# Altium integrated library Motorola Microcontroller 8-Bit.IntLib: 909 symbols (part 27 of 31)
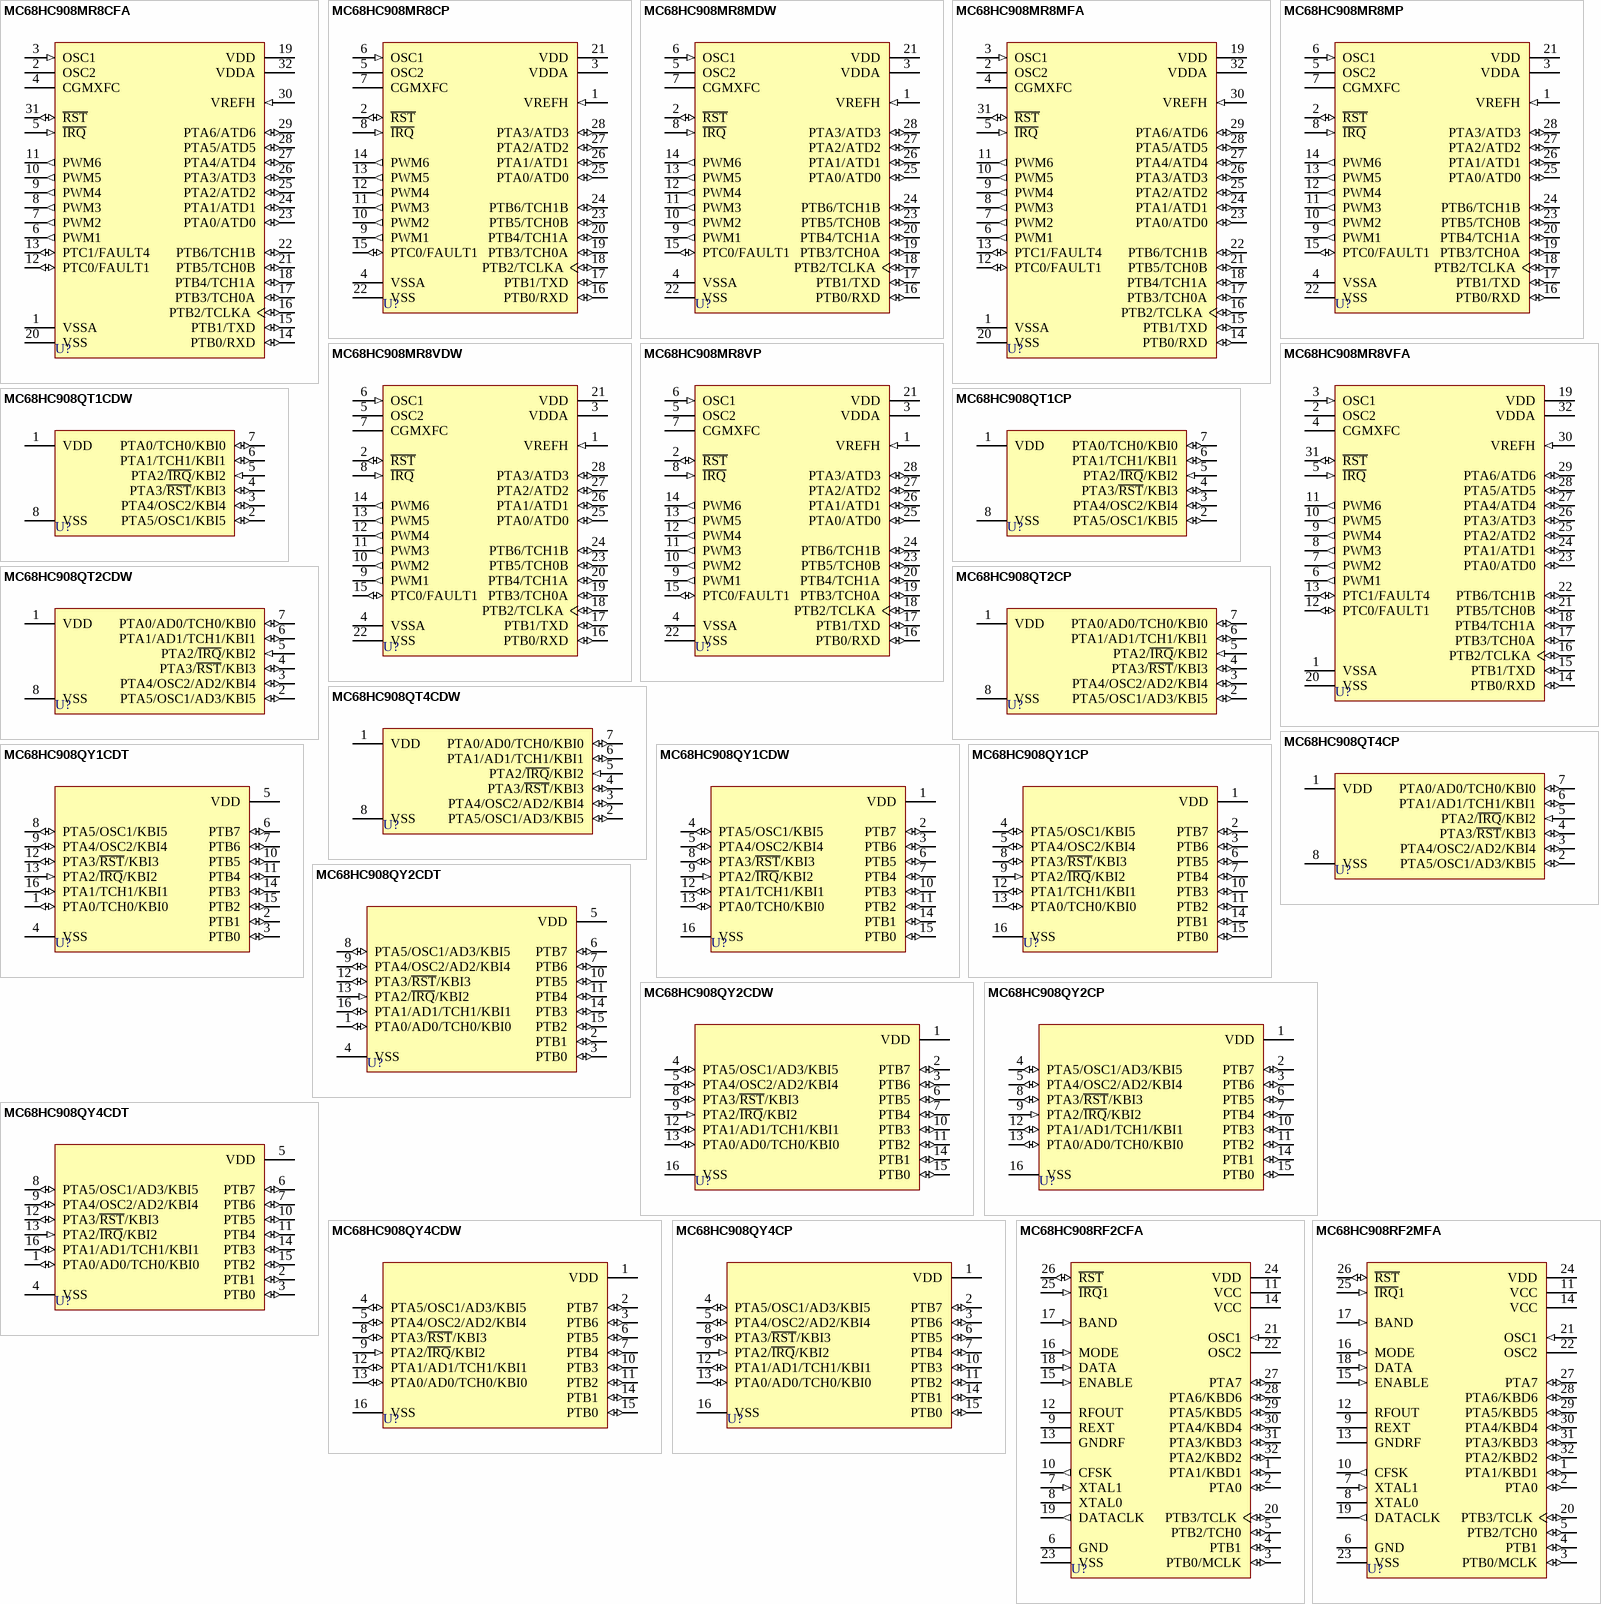
[diagram p139: symbols MC68HC908MR8CFA to MC68HC908RF2MFA]

## MC68HC908QY1CP
designator U?
8-Bit Microcontroller; Published: 17-Jan-2003; LatestRevisionDate: 06-Jun-2005; LatestRevisionNote: Stylized 3D Model Added.; DatasheetVersion: 20-Sep-2002; PackageVersion: rev1.0, Feb-2002; PackageReference: 648D; Publisher: Altium Limited; PackageDescription: DIP; 16 Leads; Row Spacing 7.62 mm; Pitch 2.54 mm; Code_JEDEC: MS-001-BB; ComponentLink1Description: Manufacturer Link; ComponentLink1URL: http://www.freescale.com/; ComponentLink2Description: Datasheet; ComponentLink2URL: http://www.freescale.com/files/microcontrollers/doc/data_sheet/MC68HC908QY4.pdf
footprint 648D (DIP; 16 Leads; Row Spacing 7.62 mm; Pitch 2.54 mm)
3D model 648-08 (DIP; 16 Leads; Row Spacing 7.62 mm; Pitch 2.54 mm)
pins: 1 VDD (power), 2 PTB7 (io), 3 PTB6 (io), 4 PTA5/OSC1/KBI5 (io), 5 PTA4/OSC2/KBI4 (io), 6 PTB5 (io), 7 PTB4 (io), 8 PTA3/~{RST}/KBI3 (io), 9 PTA2/~{IRQ}/KBI2 (in), 10 PTB3 (io), 11 PTB2 (io), 12 PTA1/TCH1/KBI1 (io), 13 PTA0/TCH0/KBI0 (io), 14 PTB1 (io), 15 PTB0 (io), 16 VSS (power)

## MC68HC908QY2CDT
designator U?
8-Bit Microcontroller; Published: 17-Jan-2003; LatestRevisionDate: 06-Jun-2005; LatestRevisionNote: Stylized 3D Model Added.; DatasheetVersion: 20-Sep-2002; PackageVersion: Mar-2000; PackageReference: 948F-01; Publisher: Altium Limited; PackageDescription: Shrink Small Outline; 16 Leads; Body Width 4.4 mm; Pitch 0.65 mm; ComponentLink1Description: Manufacturer Link; ComponentLink1URL: http://www.freescale.com/; ComponentLink2Description: Datasheet; ComponentLink2URL: http://www.freescale.com/files/microcontrollers/doc/data_sheet/MC68HC908QY4.pdf
footprint 948F-01 (Shrink Small Outline; 16 Leads; Body Width 4.4 mm; Pitch 0.65 mm)
3D model 948F-01 (Shrink Small Outline; 16 Leads; Body Width 4.4 mm; Pitch 0.65 mm)
pins: 1 PTA0/AD0/TCH0/KBI0 (io), 2 PTB1 (io), 3 PTB0 (io), 4 VSS (power), 5 VDD (power), 6 PTB7 (io), 7 PTB6 (io), 8 PTA5/OSC1/AD3/KBI5 (io), 9 PTA4/OSC2/AD2/KBI4 (io), 10 PTB5 (io), 11 PTB4 (io), 12 PTA3/~{RST}/KBI3 (io), 13 PTA2/~{IRQ}/KBI2 (in), 14 PTB3 (io), 15 PTB2 (io), 16 PTA1/AD1/TCH1/KBI1 (io)

## MC68HC908QY2CDW
designator U?
8-Bit Microcontroller; Published: 17-Jan-2003; LatestRevisionDate: 13-Apr-2006; LatestRevisionNote: IPC-7351 Footprint Added.; DatasheetVersion: 20-Sep-2002; PackageVersion: Sep-2002; PackageReference: 751G; Publisher: Altium Limited; PackageDescription: 16-Pin Small Outline Integrated Circuit 1.27 mm Pitch; ComponentLink1Description: Manufacturer Link; ComponentLink1URL: http://www.freescale.com/; ComponentLink2Description: Datasheet; ComponentLink2URL: http://www.freescale.com/files/microcontrollers/doc/data_sheet/MC68HC908QY4.pdf
footprint 751G_N (SOIC, 16-Leads, Body 10.3x7.5mm, Pitch 1.27mm, IPC Medium Density)
footprint 751G_L (SOIC, 16-Leads, Body 10.3x7.5mm, Pitch 1.27mm, IPC High Density)
footprint 751G_M (SOIC, 16-Leads, Body 10.3x7.5mm, Pitch 1.27mm, IPC Low Density)
3D model 751G (16-Pin Small Outline Integrated Circuit 1.27 mm Pitch)
pins: 1 VDD (power), 2 PTB7 (io), 3 PTB6 (io), 4 PTA5/OSC1/AD3/KBI5 (io), 5 PTA4/OSC2/AD2/KBI4 (io), 6 PTB5 (io), 7 PTB4 (io), 8 PTA3/~{RST}/KBI3 (io), 9 PTA2/~{IRQ}/KBI2 (in), 10 PTB3 (io), 11 PTB2 (io), 12 PTA1/AD1/TCH1/KBI1 (io), 13 PTA0/AD0/TCH0/KBI0 (io), 14 PTB1 (io), 15 PTB0 (io), 16 VSS (power)

## MC68HC908QY2CP
designator U?
8-Bit Microcontroller; Published: 17-Jan-2003; LatestRevisionDate: 06-Jun-2005; LatestRevisionNote: Stylized 3D Model Added.; DatasheetVersion: 20-Sep-2002; PackageVersion: rev1.0, Feb-2002; PackageReference: 648D; Publisher: Altium Limited; PackageDescription: DIP; 16 Leads; Row Spacing 7.62 mm; Pitch 2.54 mm; Code_JEDEC: MS-001-BB; ComponentLink1Description: Manufacturer Link; ComponentLink1URL: http://www.freescale.com/; ComponentLink2Description: Datasheet; ComponentLink2URL: http://www.freescale.com/files/microcontrollers/doc/data_sheet/MC68HC908QY4.pdf
footprint 648D (DIP; 16 Leads; Row Spacing 7.62 mm; Pitch 2.54 mm)
3D model 648-08 (DIP; 16 Leads; Row Spacing 7.62 mm; Pitch 2.54 mm)
pins: 1 VDD (power), 2 PTB7 (io), 3 PTB6 (io), 4 PTA5/OSC1/AD3/KBI5 (io), 5 PTA4/OSC2/AD2/KBI4 (io), 6 PTB5 (io), 7 PTB4 (io), 8 PTA3/~{RST}/KBI3 (io), 9 PTA2/~{IRQ}/KBI2 (in), 10 PTB3 (io), 11 PTB2 (io), 12 PTA1/AD1/TCH1/KBI1 (io), 13 PTA0/AD0/TCH0/KBI0 (io), 14 PTB1 (io), 15 PTB0 (io), 16 VSS (power)

## MC68HC908QY4CDT
designator U?
8-Bit Microcontroller; Published: 17-Jan-2003; LatestRevisionDate: 06-Jun-2005; LatestRevisionNote: Stylized 3D Model Added.; DatasheetVersion: 20-Sep-2002; PackageVersion: Mar-2000; PackageReference: 948F-01; Publisher: Altium Limited; PackageDescription: Shrink Small Outline; 16 Leads; Body Width 4.4 mm; Pitch 0.65 mm; ComponentLink1Description: Manufacturer Link; ComponentLink1URL: http://www.freescale.com/; ComponentLink2Description: Datasheet; ComponentLink2URL: http://www.freescale.com/files/microcontrollers/doc/data_sheet/MC68HC908QY4.pdf
footprint 948F-01 (Shrink Small Outline; 16 Leads; Body Width 4.4 mm; Pitch 0.65 mm)
3D model 948F-01 (Shrink Small Outline; 16 Leads; Body Width 4.4 mm; Pitch 0.65 mm)
pins: 1 PTA0/AD0/TCH0/KBI0 (io), 2 PTB1 (io), 3 PTB0 (io), 4 VSS (power), 5 VDD (power), 6 PTB7 (io), 7 PTB6 (io), 8 PTA5/OSC1/AD3/KBI5 (io), 9 PTA4/OSC2/AD2/KBI4 (io), 10 PTB5 (io), 11 PTB4 (io), 12 PTA3/~{RST}/KBI3 (io), 13 PTA2/~{IRQ}/KBI2 (in), 14 PTB3 (io), 15 PTB2 (io), 16 PTA1/AD1/TCH1/KBI1 (io)

## MC68HC908QY4CDW
designator U?
8-Bit Microcontroller; Published: 17-Jan-2003; LatestRevisionDate: 13-Apr-2006; LatestRevisionNote: IPC-7351 Footprint Added.; DatasheetVersion: 20-Sep-2002; PackageVersion: Sep-2002; PackageReference: 751G; Publisher: Altium Limited; PackageDescription: 16-Pin Small Outline Integrated Circuit 1.27 mm Pitch; ComponentLink1Description: Manufacturer Link; ComponentLink1URL: http://www.freescale.com/; ComponentLink2Description: Datasheet; ComponentLink2URL: http://www.freescale.com/files/microcontrollers/doc/data_sheet/MC68HC908QY4.pdf
footprint 751G_N (SOIC, 16-Leads, Body 10.3x7.5mm, Pitch 1.27mm, IPC Medium Density)
footprint 751G_L (SOIC, 16-Leads, Body 10.3x7.5mm, Pitch 1.27mm, IPC High Density)
footprint 751G_M (SOIC, 16-Leads, Body 10.3x7.5mm, Pitch 1.27mm, IPC Low Density)
3D model 751G (16-Pin Small Outline Integrated Circuit 1.27 mm Pitch)
pins: 1 VDD (power), 2 PTB7 (io), 3 PTB6 (io), 4 PTA5/OSC1/AD3/KBI5 (io), 5 PTA4/OSC2/AD2/KBI4 (io), 6 PTB5 (io), 7 PTB4 (io), 8 PTA3/~{RST}/KBI3 (io), 9 PTA2/~{IRQ}/KBI2 (in), 10 PTB3 (io), 11 PTB2 (io), 12 PTA1/AD1/TCH1/KBI1 (io), 13 PTA0/AD0/TCH0/KBI0 (io), 14 PTB1 (io), 15 PTB0 (io), 16 VSS (power)

## MC68HC908QY4CP
designator U?
8-Bit Microcontroller; Published: 17-Jan-2003; LatestRevisionDate: 06-Jun-2005; LatestRevisionNote: Stylized 3D Model Added.; DatasheetVersion: 20-Sep-2002; PackageVersion: rev1.0, Feb-2002; PackageReference: 648D; Publisher: Altium Limited; PackageDescription: DIP; 16 Leads; Row Spacing 7.62 mm; Pitch 2.54 mm; Code_JEDEC: MS-001-BB; ComponentLink1Description: Manufacturer Link; ComponentLink1URL: http://www.freescale.com/; ComponentLink2Description: Datasheet; ComponentLink2URL: http://www.freescale.com/files/microcontrollers/doc/data_sheet/MC68HC908QY4.pdf
footprint 648D (DIP; 16 Leads; Row Spacing 7.62 mm; Pitch 2.54 mm)
3D model 648-08 (DIP; 16 Leads; Row Spacing 7.62 mm; Pitch 2.54 mm)
pins: 1 VDD (power), 2 PTB7 (io), 3 PTB6 (io), 4 PTA5/OSC1/AD3/KBI5 (io), 5 PTA4/OSC2/AD2/KBI4 (io), 6 PTB5 (io), 7 PTB4 (io), 8 PTA3/~{RST}/KBI3 (io), 9 PTA2/~{IRQ}/KBI2 (in), 10 PTB3 (io), 11 PTB2 (io), 12 PTA1/AD1/TCH1/KBI1 (io), 13 PTA0/AD0/TCH0/KBI0 (io), 14 PTB1 (io), 15 PTB0 (io), 16 VSS (power)

## MC68HC908RF2CFA
designator U?
8-Bit Microcontroller; Published: 17-Jan-2003; LatestRevisionDate: 13-Apr-2006; LatestRevisionNote: IPC-7351 Footprint Added.; DatasheetVersion: Rev 1, 2001; PackageVersion: Aug-2001; PackageReference: 873A-02; Publisher: Altium Limited; PackageDescription: 32-Pin Thin Quad Flat Pack 0.8 mm Pitch; ComponentLink1Description: Manufacturer Link; ComponentLink1URL: http://www.freescale.com/; ComponentLink2Description: Datasheet; ComponentLink2URL: http://www.freescale.com/files/microcontrollers/doc/data_sheet/MC68HC908RF2.pdf
footprint 873A-02_N (Thin QFP, 32-Leads, Body 7x7mm, Pitch 0.8mm, IPC Medium Density)
footprint 873A-02_L (Thin QFP, 32-Leads, Body 7x7mm, Pitch 0.8mm, IPC High Density)
footprint 873A-02_M (Thin QFP, 32-Leads, Body 7x7mm, Pitch 0.8mm, IPC Low Density)
3D model MC68HC908-873A-02 (32-Pin Thin Quad Flat Pack 0.8 mm Pitch)
pins: 1 PTA1/KBD1 (io), 2 PTA0 (io), 3 PTB0/MCLK (io), 4 PTB1 (io), 5 PTB2/TCH0 (io), 6 GND (power), 7 XTAL1 (in), 8 XTAL0, 9 REXT, 10 CFSK (out), 11 VCC (power), 12 RFOUT (oe), 13 GNDRF (power), 14 VCC (power), 15 ENABLE (in), 16 MODE (in), 17 BAND (in), 18 DATA (in), 19 DATACLK (out), 20 PTB3/TCLK (io), 21 OSC1 (in), 22 OSC2, 23 VSS (power), 24 VDD (power), 25 ~{IRQ}1 (in), 26 ~{RST} (io), 27 PTA7 (io), 28 PTA6/KBD6 (io), 29 PTA5/KBD5 (io), 30 PTA4/KBD4 (io), 31 PTA3/KBD3 (io), 32 PTA2/KBD2 (io)

## MC68HC908RF2MFA
designator U?
8-Bit Microcontroller; Published: 17-Jan-2003; LatestRevisionDate: 13-Apr-2006; LatestRevisionNote: IPC-7351 Footprint Added.; DatasheetVersion: Rev 1, 2001; PackageVersion: Aug-2001; PackageReference: 873A-02; Publisher: Altium Limited; PackageDescription: 32-Pin Thin Quad Flat Pack 0.8 mm Pitch; ComponentLink1Description: Manufacturer Link; ComponentLink1URL: http://www.freescale.com/; ComponentLink2Description: Datasheet; ComponentLink2URL: http://www.freescale.com/files/microcontrollers/doc/data_sheet/MC68HC908RF2.pdf
footprint 873A-02_N (Thin QFP, 32-Leads, Body 7x7mm, Pitch 0.8mm, IPC Medium Density)
footprint 873A-02_L (Thin QFP, 32-Leads, Body 7x7mm, Pitch 0.8mm, IPC High Density)
footprint 873A-02_M (Thin QFP, 32-Leads, Body 7x7mm, Pitch 0.8mm, IPC Low Density)
3D model MC68HC908-873A-02 (32-Pin Thin Quad Flat Pack 0.8 mm Pitch)
pins: 1 PTA1/KBD1 (io), 2 PTA0 (io), 3 PTB0/MCLK (io), 4 PTB1 (io), 5 PTB2/TCH0 (io), 6 GND (power), 7 XTAL1 (in), 8 XTAL0, 9 REXT, 10 CFSK (out), 11 VCC (power), 12 RFOUT (oe), 13 GNDRF (power), 14 VCC (power), 15 ENABLE (in), 16 MODE (in), 17 BAND (in), 18 DATA (in), 19 DATACLK (out), 20 PTB3/TCLK (io), 21 OSC1 (in), 22 OSC2, 23 VSS (power), 24 VDD (power), 25 ~{IRQ}1 (in), 26 ~{RST} (io), 27 PTA7 (io), 28 PTA6/KBD6 (io), 29 PTA5/KBD5 (io), 30 PTA4/KBD4 (io), 31 PTA3/KBD3 (io), 32 PTA2/KBD2 (io)

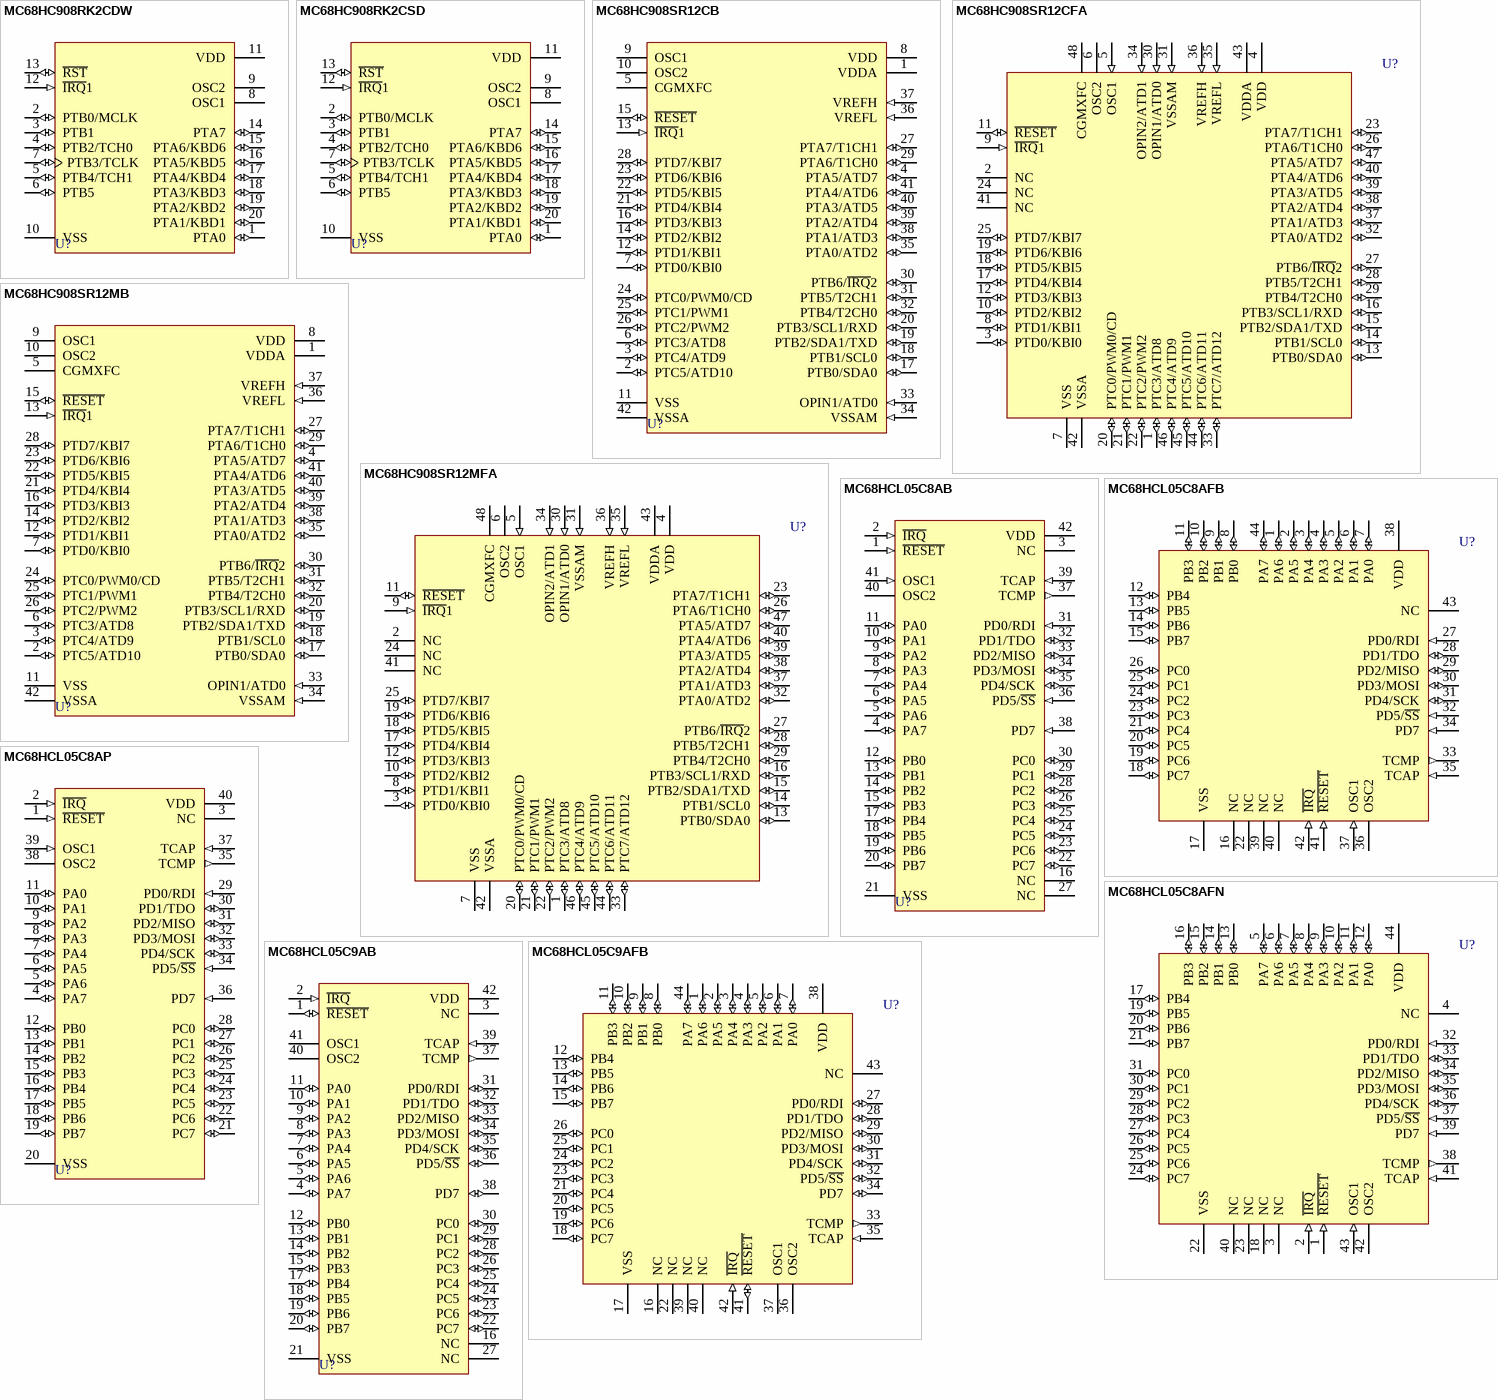
[diagram p98: symbols MC68HC908RK2CDW to MC68HCL05C9AFB]

## MC68HC908RK2CDW
designator U?
8-Bit Microcontroller; Published: 17-Jan-2003; LatestRevisionDate: 13-Apr-2006; LatestRevisionNote: IPC-7351 Footprint Added.; DatasheetVersion: Rev 4, 2001; PackageVersion: rev4.0, 2001; PackageReference: 751D-05; Publisher: Altium Limited; PackageDescription: 20-Pin Plastic Small Outline Integrated Circuit 1.27 mm Pitch; ComponentLink1Description: Manufacturer Link; ComponentLink1URL: http://www.freescale.com/
footprint 751D-05_N (SOIC, 20-Leads, Body 12.8x7.5mm, Pitch 1.27mm, IPC Medium Density)
footprint 751D-05_L (SOIC, 20-Leads, Body 12.8x7.5mm, Pitch 1.27mm, IPC High Density)
footprint 751D-05_M (SOIC, 20-Leads, Body 12.8x7.5mm, Pitch 1.27mm, IPC Low Density)
3D model 751D-05 (20-Pin Plastic Small Outline Integrated Circuit 1.27 mm Pitch)
pins: 1 PTA0 (io), 2 PTB0/MCLK (io), 3 PTB1 (io), 4 PTB2/TCH0 (io), 5 PTB4/TCH1 (io), 6 PTB5 (io), 7 PTB3/TCLK (io), 8 OSC1, 9 OSC2, 10 VSS (power), 11 VDD (power), 12 ~{IRQ}1 (in), 13 ~{RST} (io), 14 PTA7 (io), 15 PTA6/KBD6 (io), 16 PTA5/KBD5 (io), 17 PTA4/KBD4 (io), 18 PTA3/KBD3 (io), 19 PTA2/KBD2 (io), 20 PTA1/KBD1 (io)

## MC68HC908RK2CSD
designator U?
8-Bit Microcontroller; Published: 17-Jan-2003; LatestRevisionDate: 06-Jun-2005; LatestRevisionNote: Stylized 3D Model Added.; DatasheetVersion: Rev 4, 2001; PackageVersion: rev4.0, 2001; PackageReference: 940C-03; Publisher: Altium Limited; PackageDescription: SSOP; 20 Leads; Body Width 5.3 mm; Pitch 0.65 mm; ComponentLink1Description: Manufacturer Link; ComponentLink1URL: http://www.freescale.com/
footprint 940C-03 (SSOP; 20 Leads; Body Width 5.3 mm; Pitch 0.65 mm)
3D model 940C-03 (SSOP; 20 Leads; Body Width 5.3 mm; Pitch 0.65 mm)
pins: 1 PTA0 (io), 2 PTB0/MCLK (io), 3 PTB1 (io), 4 PTB2/TCH0 (io), 5 PTB4/TCH1 (io), 6 PTB5 (io), 7 PTB3/TCLK (io), 8 OSC1, 9 OSC2, 10 VSS (power), 11 VDD (power), 12 ~{IRQ}1 (in), 13 ~{RST} (io), 14 PTA7 (io), 15 PTA6/KBD6 (io), 16 PTA5/KBD5 (io), 17 PTA4/KBD4 (io), 18 PTA3/KBD3 (io), 19 PTA2/KBD2 (io), 20 PTA1/KBD1 (io)

## MC68HC908SR12CB
designator U?
8-Bit Microcontroller; Published: 17-Jan-2003; LatestRevisionDate: 06-Jun-2005; LatestRevisionNote: Stylized 3D Model Added.; DatasheetVersion: Rev 4, 2/2002; PackageVersion: rev5, Apr-2002; PackageReference: 858-01; Publisher: Altium Limited; PackageDescription: DIP, Plastic; 42 Leads; Row Spacing 15.24 mm; Pitch 1.778 mm; ComponentLink1Description: Manufacturer Link; ComponentLink1URL: http://www.freescale.com/
footprint 858-01 (DIP, Plastic; 42 Leads; Row Spacing 15.24 mm; Pitch 1.778 mm)
3D model 858-01 (DIP, Plastic; 42 Leads; Row Spacing 15.24 mm; Pitch 1.778 mm)
pins: 1 VDDA (power), 2 PTC5/ATD10 (io), 3 PTC4/ATD9 (io), 4 PTA5/ATD7 (io), 5 CGMXFC, 6 PTC3/ATD8 (io), 7 PTD0/KBI0 (io), 8 VDD (power), 9 OSC1, 10 OSC2, 11 VSS (power), 12 PTD1/KBI1 (io), 13 ~{IRQ}1 (in), 14 PTD2/KBI2 (io), 15 ~{RESET} (io), 16 PTD3/KBI3 (io), 17 PTB0/SDA0 (io), 18 PTB1/SCL0 (io), 19 PTB2/SDA1/TXD (io), 20 PTB3/SCL1/RXD (io), 21 PTD4/KBI4 (io), 22 PTD5/KBI5 (io), 23 PTD6/KBI6 (io), 24 PTC0/PWM0/CD (io), 25 PTC1/PWM1 (io), 26 PTC2/PWM2 (io), 27 PTA7/T1CH1 (io), 28 PTD7/KBI7 (io), 29 PTA6/T1CH0 (io), 30 PTB6/~{IRQ}2 (io), 31 PTB5/T2CH1 (io), 32 PTB4/T2CH0 (io), 33 OPIN1/ATD0 (in), 34 VSSAM (in), 35 PTA0/ATD2 (io), 36 VREFL (in), 37 VREFH (in), 38 PTA1/ATD3 (io), 39 PTA2/ATD4 (io), 40 PTA3/ATD5 (io), 41 PTA4/ATD6 (io), 42 VSSA (power)

## MC68HC908SR12CFA
designator U?
8-Bit Microcontroller; Published: 17-Jan-2003; LatestRevisionDate: 13-Apr-2006; LatestRevisionNote: IPC-7351 Footprint Added.; DatasheetVersion: Rev 4, 2/2002; PackageVersion: rev4, Feb-2002; PackageReference: 932-02; Publisher: Altium Limited; PackageDescription: 48-Pin Thin Quad Flat Pack 0.5 mm Pitch; ComponentLink1Description: Manufacturer Link; ComponentLink1URL: http://www.freescale.com/
footprint 932-02_N (Thin QFP, 48-Leads, Body 7x7mm, Pitch 0.5mm, IPC Medium Density)
footprint 932-02_L (Thin QFP, 48-Leads, Body 7x7mm, Pitch 0.5mm, IPC High Density)
footprint 932-02_M (Thin QFP, 48-Leads, Body 7x7mm, Pitch 0.5mm, IPC Low Density)
3D model MC68HC908-932-02 (48-Pin Thin Quad Flat Pack 0.5 mm Pitch)
pins: 1 PTC3/ATD8 (io), 2 NC, 3 PTD0/KBI0 (io), 4 VDD (power), 5 OSC1 (in), 6 OSC2, 7 VSS (power), 8 PTD1/KBI1 (io), 9 ~{IRQ}1 (in), 10 PTD2/KBI2 (io), 11 ~{RESET} (io), 12 PTD3/KBI3 (io), 13 PTB0/SDA0 (io), 14 PTB1/SCL0 (io), 15 PTB2/SDA1/TXD (io), 16 PTB3/SCL1/RXD (io), 17 PTD4/KBI4 (io), 18 PTD5/KBI5 (io), 19 PTD6/KBI6 (io), 20 PTC0/PWM0/CD (io), 21 PTC1/PWM1 (io), 22 PTC2/PWM2 (io), 23 PTA7/T1CH1 (io), 24 NC, 25 PTD7/KBI7 (io), 26 PTA6/T1CH0 (io), 27 PTB6/~{IRQ}2 (io), 28 PTB5/T2CH1 (io), 29 PTB4/T2CH0 (io), 30 OPIN1/ATD0 (in), 31 VSSAM (in), 32 PTA0/ATD2 (io), 33 PTC7/ATD12 (io), 34 OPIN2/ATD1 (in), 35 VREFL (in), 36 VREFH (in), 37 PTA1/ATD3 (io), 38 PTA2/ATD4 (io), 39 PTA3/ATD5 (io), 40 PTA4/ATD6 (io), 41 NC, 42 VSSA (power), 43 VDDA (power), 44 PTC6/ATD11 (io), 45 PTC5/ATD10 (io), 46 PTC4/ATD9 (io), 47 PTA5/ATD7 (io), 48 CGMXFC

## MC68HC908SR12MB
designator U?
8-Bit Microcontroller; Published: 17-Jan-2003; LatestRevisionDate: 06-Jun-2005; LatestRevisionNote: Stylized 3D Model Added.; DatasheetVersion: Rev 4, 2/2002; PackageVersion: rev5, Apr-2002; PackageReference: 858-01; Publisher: Altium Limited; PackageDescription: DIP, Plastic; 42 Leads; Row Spacing 15.24 mm; Pitch 1.778 mm; ComponentLink1Description: Manufacturer Link; ComponentLink1URL: http://www.freescale.com/
footprint 858-01 (DIP, Plastic; 42 Leads; Row Spacing 15.24 mm; Pitch 1.778 mm)
3D model 858-01 (DIP, Plastic; 42 Leads; Row Spacing 15.24 mm; Pitch 1.778 mm)
pins: 1 VDDA (power), 2 PTC5/ATD10 (io), 3 PTC4/ATD9 (io), 4 PTA5/ATD7 (io), 5 CGMXFC, 6 PTC3/ATD8 (io), 7 PTD0/KBI0 (io), 8 VDD (power), 9 OSC1, 10 OSC2, 11 VSS (power), 12 PTD1/KBI1 (io), 13 ~{IRQ}1 (in), 14 PTD2/KBI2 (io), 15 ~{RESET} (io), 16 PTD3/KBI3 (io), 17 PTB0/SDA0 (io), 18 PTB1/SCL0 (io), 19 PTB2/SDA1/TXD (io), 20 PTB3/SCL1/RXD (io), 21 PTD4/KBI4 (io), 22 PTD5/KBI5 (io), 23 PTD6/KBI6 (io), 24 PTC0/PWM0/CD (io), 25 PTC1/PWM1 (io), 26 PTC2/PWM2 (io), 27 PTA7/T1CH1 (io), 28 PTD7/KBI7 (io), 29 PTA6/T1CH0 (io), 30 PTB6/~{IRQ}2 (io), 31 PTB5/T2CH1 (io), 32 PTB4/T2CH0 (io), 33 OPIN1/ATD0 (in), 34 VSSAM (in), 35 PTA0/ATD2 (io), 36 VREFL (in), 37 VREFH (in), 38 PTA1/ATD3 (io), 39 PTA2/ATD4 (io), 40 PTA3/ATD5 (io), 41 PTA4/ATD6 (io), 42 VSSA (power)

## MC68HC908SR12MFA
designator U?
8-Bit Microcontroller; Published: 17-Jan-2003; LatestRevisionDate: 13-Apr-2006; LatestRevisionNote: IPC-7351 Footprint Added.; DatasheetVersion: Rev 4, 2/2002; PackageVersion: rev4, Feb-2002; PackageReference: 932-02; Publisher: Altium Limited; PackageDescription: 48-Pin Thin Quad Flat Pack 0.5 mm Pitch; ComponentLink1Description: Manufacturer Link; ComponentLink1URL: http://www.freescale.com/
footprint 932-02_N (Thin QFP, 48-Leads, Body 7x7mm, Pitch 0.5mm, IPC Medium Density)
footprint 932-02_L (Thin QFP, 48-Leads, Body 7x7mm, Pitch 0.5mm, IPC High Density)
footprint 932-02_M (Thin QFP, 48-Leads, Body 7x7mm, Pitch 0.5mm, IPC Low Density)
3D model MC68HC908-932-02 (48-Pin Thin Quad Flat Pack 0.5 mm Pitch)
pins: 1 PTC3/ATD8 (io), 2 NC, 3 PTD0/KBI0 (io), 4 VDD (power), 5 OSC1 (in), 6 OSC2, 7 VSS (power), 8 PTD1/KBI1 (io), 9 ~{IRQ}1 (in), 10 PTD2/KBI2 (io), 11 ~{RESET} (io), 12 PTD3/KBI3 (io), 13 PTB0/SDA0 (io), 14 PTB1/SCL0 (io), 15 PTB2/SDA1/TXD (io), 16 PTB3/SCL1/RXD (io), 17 PTD4/KBI4 (io), 18 PTD5/KBI5 (io), 19 PTD6/KBI6 (io), 20 PTC0/PWM0/CD (io), 21 PTC1/PWM1 (io), 22 PTC2/PWM2 (io), 23 PTA7/T1CH1 (io), 24 NC, 25 PTD7/KBI7 (io), 26 PTA6/T1CH0 (io), 27 PTB6/~{IRQ}2 (io), 28 PTB5/T2CH1 (io), 29 PTB4/T2CH0 (io), 30 OPIN1/ATD0 (in), 31 VSSAM (in), 32 PTA0/ATD2 (io), 33 PTC7/ATD12 (io), 34 OPIN2/ATD1 (in), 35 VREFL (in), 36 VREFH (in), 37 PTA1/ATD3 (io), 38 PTA2/ATD4 (io), 39 PTA3/ATD5 (io), 40 PTA4/ATD6 (io), 41 NC, 42 VSSA (power), 43 VDDA (power), 44 PTC6/ATD11 (io), 45 PTC5/ATD10 (io), 46 PTC4/ATD9 (io), 47 PTA5/ATD7 (io), 48 CGMXFC

## MC68HCL05C8AB
designator U?
8-Bit Microcontroller; Note: If MC68HC705C8A OTPs are to be used in the same applicaion, pin 3 should be tied to VDD.; Published: 17-Jan-2003; LatestRevisionDate: 06-Jun-2005; LatestRevisionNote: Stylized 3D Model Added.; DatasheetVersion: Rev 5, 4/2002; PackageVersion: rev5, Apr-2002; PackageReference: 858-01; Publisher: Altium Limited; PackageDescription: DIP, Plastic; 42 Leads; Row Spacing 15.24 mm; Pitch 1.778 mm; ComponentLink1Description: Manufacturer Link; ComponentLink1URL: http://www.freescale.com/; ComponentLink2Description: Datasheet; ComponentLink2URL: http://www.freescale.com/files/microcontrollers/doc/data_sheet/MC68HC05C8A.pdf
footprint 858-01 (DIP, Plastic; 42 Leads; Row Spacing 15.24 mm; Pitch 1.778 mm)
3D model 858-01 (DIP, Plastic; 42 Leads; Row Spacing 15.24 mm; Pitch 1.778 mm)
pins: 1 ~{RESET} (in), 2 ~{IRQ} (in), 3 NC, 4 PA7 (io), 5 PA6 (io), 6 PA5 (io), 7 PA4 (io), 8 PA3 (io), 9 PA2 (io), 10 PA1 (io), 11 PA0 (io), 12 PB0 (io), 13 PB1 (io), 14 PB2 (io), 15 PB3 (io), 16 NC, 17 PB4 (io), 18 PB5 (io), 19 PB6 (io), 20 PB7 (io), 21 VSS (power), 22 PC7 (io), 23 PC6 (io), 24 PC5 (io), 25 PC4 (io), 26 PC3 (io), 27 NC, 28 PC2 (io), 29 PC1 (io), 30 PC0 (io), 31 PD0/RDI (in), 32 PD1/TDO (io), 33 PD2/MISO (io), 34 PD3/MOSI (io), 35 PD4/SCK (io), 36 PD5/~{SS} (in), 37 TCMP (out), 38 PD7 (in), 39 TCAP (in), 40 OSC2, 41 OSC1 (in), 42 VDD (power)

## MC68HCL05C8AFB
designator U?
8-Bit Microcontroller; Note: If MC68HC705C8A OTPs are to be used in the same applicaion, pin 43 should be tied to VDD.; Published: 17-Jan-2003; LatestRevisionDate: 13-Apr-2006; LatestRevisionNote: IPC-7351 Footprint Added.; DatasheetVersion: Rev 5, 4/2002; PackageVersion: rev5, Apr-2002; PackageReference: 824A-01; Publisher: Altium Limited; PackageDescription: 44-Pin Quad Flat Pack 0.8 mm Pitch; Code_JEDEC: MS-022-AB; Code_IPC: QFP80P1320X1320-44; ComponentLink1Description: Manufacturer Link; ComponentLink1URL: http://www.freescale.com/; ComponentLink2Description: Datasheet; ComponentLink2URL: http://www.freescale.com/files/microcontrollers/doc/data_sheet/MC68HC05C8A.pdf
footprint 824A-01_N (QFP, 44-Leads, Body 10x10mm, Pitch 0.8mm, IPC Medium Density)
footprint 824A-01_L (QFP, 44-Leads, Body 10x10mm, Pitch 0.8mm, IPC High Density)
footprint 824A-01_M (QFP, 44-Leads, Body 10x10mm, Pitch 0.8mm, IPC Low Density)
3D model MC68HCL05-824A-01 (44-Pin Quad Flat Pack 0.8 mm Pitch)
pins: 1 PA6 (io), 2 PA5 (io), 3 PA4 (io), 4 PA3 (io), 5 PA2 (io), 6 PA1 (io), 7 PA0 (io), 8 PB0 (io), 9 PB1 (io), 10 PB2 (io), 11 PB3 (io), 12 PB4 (io), 13 PB5 (io), 14 PB6 (io), 15 PB7 (io), 16 NC, 17 VSS (power), 18 PC7 (io), 19 PC6 (io), 20 PC5 (io), 21 PC4 (io), 22 NC, 23 PC3 (io), 24 PC2 (io), 25 PC1 (io), 26 PC0 (io), 27 PD0/RDI (in), 28 PD1/TDO (io), 29 PD2/MISO (io), 30 PD3/MOSI (io), 31 PD4/SCK (io), 32 PD5/~{SS} (in), 33 TCMP (out), 34 PD7 (in), 35 TCAP (in), 36 OSC2, 37 OSC1 (in), 38 VDD (power), 39 NC, 40 NC, 41 ~{RESET} (in), 42 ~{IRQ} (in), 43 NC, 44 PA7 (io)

## MC68HCL05C8AFN
designator U?
8-Bit Microcontroller; Note: If MC68HC705C8A OTPs are to be used in the same applicaion, pin 4 should be tied to VDD.; Published: 17-Jan-2003; LatestRevisionDate: 13-Apr-2006; LatestRevisionNote: IPC-7351 Footprint Added.; DatasheetVersion: Rev 5, 4/2002; PackageVersion: rev3, Feb-2002; PackageReference: 777-02; Publisher: Altium Limited; PackageDescription: 44-Pin Plastic Leaded Chip Carrier 1.27 mm Pitch; ComponentLink1Description: Manufacturer Link; ComponentLink1URL: http://www.freescale.com/; ComponentLink2Description: Datasheet; ComponentLink2URL: http://www.freescale.com/files/microcontrollers/doc/data_sheet/MC68HC05C8A.pdf
footprint 777-02_N (Leaded Chip Carrier, 44-Leads, Body 16.6x16.6mm, Pitch 1.27mm, IPC Medium Density)
footprint 777-02_L (Leaded Chip Carrier, 44-Leads, Body 16.6x16.6mm, Pitch 1.27mm, IPC High Density)
footprint 777-02_M (Leaded Chip Carrier, 44-Leads, Body 16.6x16.6mm, Pitch 1.27mm, IPC Low Density)
3D model MC68HCL05-777-02 (44-Pin Plastic Leaded Chip Carrier 1.27 mm Pitch)
pins: 1 ~{RESET} (in), 2 ~{IRQ} (in), 3 NC, 4 NC, 5 PA7 (io), 6 PA6 (io), 7 PA5 (io), 8 PA4 (io), 9 PA3 (io), 10 PA2 (io), 11 PA1 (io), 12 PA0 (io), 13 PB0 (io), 14 PB1 (io), 15 PB2 (io), 16 PB3 (io), 17 PB4 (io), 18 NC, 19 PB5 (io), 20 PB6 (io), 21 PB7 (io), 22 VSS (power), 23 NC, 24 PC7 (io), 25 PC6 (io), 26 PC5 (io), 27 PC4 (io), 28 PC3 (io), 29 PC2 (io), 30 PC1 (io), 31 PC0 (io), 32 PD0/RDI (in), 33 PD1/TDO (io), 34 PD2/MISO (io), 35 PD3/MOSI (io), 36 PD4/SCK (io), 37 PD5/~{SS} (in), 38 TCMP (out), 39 PD7 (in), 40 NC, 41 TCAP (in), 42 OSC2, 43 OSC1 (in), 44 VDD (power)

## MC68HCL05C8AP
designator U?
8-Bit Microcontroller; Note: If MC68HC705C8A OTPs are to be used in the same applicaion, pin 3 should be tied to VDD.; Published: 17-Jan-2003; LatestRevisionDate: 06-Jun-2005; LatestRevisionNote: Stylized 3D Model Added.; DatasheetVersion: Rev 5, 4/2002; PackageReference: 711-03; Publisher: Altium Limited; PackageDescription: DIP; 40 Leads; Row Spacing 15.24 mm; Pitch 2.54 mm; ComponentLink1Description: Manufacturer Link; ComponentLink1URL: http://www.freescale.com/; ComponentLink2Description: Datasheet; ComponentLink2URL: http://www.freescale.com/files/microcontrollers/doc/data_sheet/MC68HC05C8A.pdf
footprint 711-03 (DIP; 40 Leads; Row Spacing 15.24 mm; Pitch 2.54 mm)
3D model 711-03 (DIP; 40 Leads; Row Spacing 15.24 mm; Pitch 2.54 mm)
pins: 1 ~{RESET} (in), 2 ~{IRQ} (in), 3 NC, 4 PA7 (io), 5 PA6 (io), 6 PA5 (io), 7 PA4 (io), 8 PA3 (io), 9 PA2 (io), 10 PA1 (io), 11 PA0 (io), 12 PB0 (io), 13 PB1 (io), 14 PB2 (io), 15 PB3 (io), 16 PB4 (io), 17 PB5 (io), 18 PB6 (io), 19 PB7 (io), 20 VSS (power), 21 PC7 (io), 22 PC6 (io), 23 PC5 (io), 24 PC4 (io), 25 PC3 (io), 26 PC2 (io), 27 PC1 (io), 28 PC0 (io), 29 PD0/RDI (in), 30 PD1/TDO (io), 31 PD2/MISO (io), 32 PD3/MOSI (io), 33 PD4/SCK (io), 34 PD5/~{SS} (in), 35 TCMP (out), 36 PD7 (in), 37 TCAP (in), 38 OSC2, 39 OSC1 (in), 40 VDD (power)

## MC68HCL05C9AB
designator U?
8-Bit Microcontroller; Note: If MC68HC705C9A devices are to be used in the same socket, pin 3 should be tied to VDD.; Published: 17-Jan-2003; LatestRevisionDate: 06-Jun-2005; LatestRevisionNote: Stylized 3D Model Added.; DatasheetVersion: Rev 5, 2000; PackageVersion: rev5, Apr-2002; PackageReference: 858-01; Publisher: Altium Limited; PackageDescription: DIP, Plastic; 42 Leads; Row Spacing 15.24 mm; Pitch 1.778 mm; ComponentLink1Description: Manufacturer Link; ComponentLink1URL: http://www.freescale.com/; ComponentLink2Description: Datasheet; ComponentLink2URL: http://www.freescale.com/files/microcontrollers/doc/data_sheet/MC68HC05C9A.pdf
footprint 858-01 (DIP, Plastic; 42 Leads; Row Spacing 15.24 mm; Pitch 1.778 mm)
3D model 858-01 (DIP, Plastic; 42 Leads; Row Spacing 15.24 mm; Pitch 1.778 mm)
pins: 1 ~{RESET} (io), 2 ~{IRQ} (in), 3 NC, 4 PA7 (io), 5 PA6 (io), 6 PA5 (io), 7 PA4 (io), 8 PA3 (io), 9 PA2 (io), 10 PA1 (io), 11 PA0 (io), 12 PB0 (io), 13 PB1 (io), 14 PB2 (io), 15 PB3 (io), 16 NC, 17 PB4 (io), 18 PB5 (io), 19 PB6 (io), 20 PB7 (io), 21 VSS (power), 22 PC7 (io), 23 PC6 (io), 24 PC5 (io), 25 PC4 (io), 26 PC3 (io), 27 NC, 28 PC2 (io), 29 PC1 (io), 30 PC0 (io), 31 PD0/RDI (io), 32 PD1/TDO (io), 33 PD2/MISO (io), 34 PD3/MOSI (io), 35 PD4/SCK (io), 36 PD5/~{SS} (io), 37 TCMP (out), 38 PD7 (io), 39 TCAP (in), 40 OSC2, 41 OSC1, 42 VDD (power)

## MC68HCL05C9AFB
designator U?
8-Bit Microcontroller; Note: If MC68HC705C9A devices are to be used in the same socket, pin 43 should be tied to VDD.; Published: 17-Jan-2003; LatestRevisionDate: 13-Apr-2006; LatestRevisionNote: IPC-7351 Footprint Added.; DatasheetVersion: Rev 5, 2000; PackageVersion: rev5, Apr-2002; PackageReference: 824A-01; Publisher: Altium Limited; PackageDescription: 44-Pin Quad Flat Pack 0.8 mm Pitch; Code_JEDEC: MS-022-AB; Code_IPC: QFP80P1320X1320-44; ComponentLink1Description: Manufacturer Link; ComponentLink1URL: http://www.freescale.com/; ComponentLink2Description: Datasheet; ComponentLink2URL: http://www.freescale.com/files/microcontrollers/doc/data_sheet/MC68HC05C9A.pdf
footprint 824A-01_N (QFP, 44-Leads, Body 10x10mm, Pitch 0.8mm, IPC Medium Density)
footprint 824A-01_L (QFP, 44-Leads, Body 10x10mm, Pitch 0.8mm, IPC High Density)
footprint 824A-01_M (QFP, 44-Leads, Body 10x10mm, Pitch 0.8mm, IPC Low Density)
3D model MC68HCL05-824A-01 (44-Pin Quad Flat Pack 0.8 mm Pitch)
pins: 1 PA6 (io), 2 PA5 (io), 3 PA4 (io), 4 PA3 (io), 5 PA2 (io), 6 PA1 (io), 7 PA0 (io), 8 PB0 (io), 9 PB1 (io), 10 PB2 (io), 11 PB3 (io), 12 PB4 (io), 13 PB5 (io), 14 PB6 (io), 15 PB7 (io), 16 NC, 17 VSS (power), 18 PC7 (io), 19 PC6 (io), 20 PC5 (io), 21 PC4 (io), 22 NC, 23 PC3 (io), 24 PC2 (io), 25 PC1 (io), 26 PC0 (io), 27 PD0/RDI (io), 28 PD1/TDO (io), 29 PD2/MISO (io), 30 PD3/MOSI (io), 31 PD4/SCK (io), 32 PD5/~{SS} (io), 33 TCMP (out), 34 PD7 (io), 35 TCAP (in), 36 OSC2, 37 OSC1, 38 VDD (power), 39 NC, 40 NC, 41 ~{RESET} (io), 42 ~{IRQ} (in), 43 NC, 44 PA7 (io)

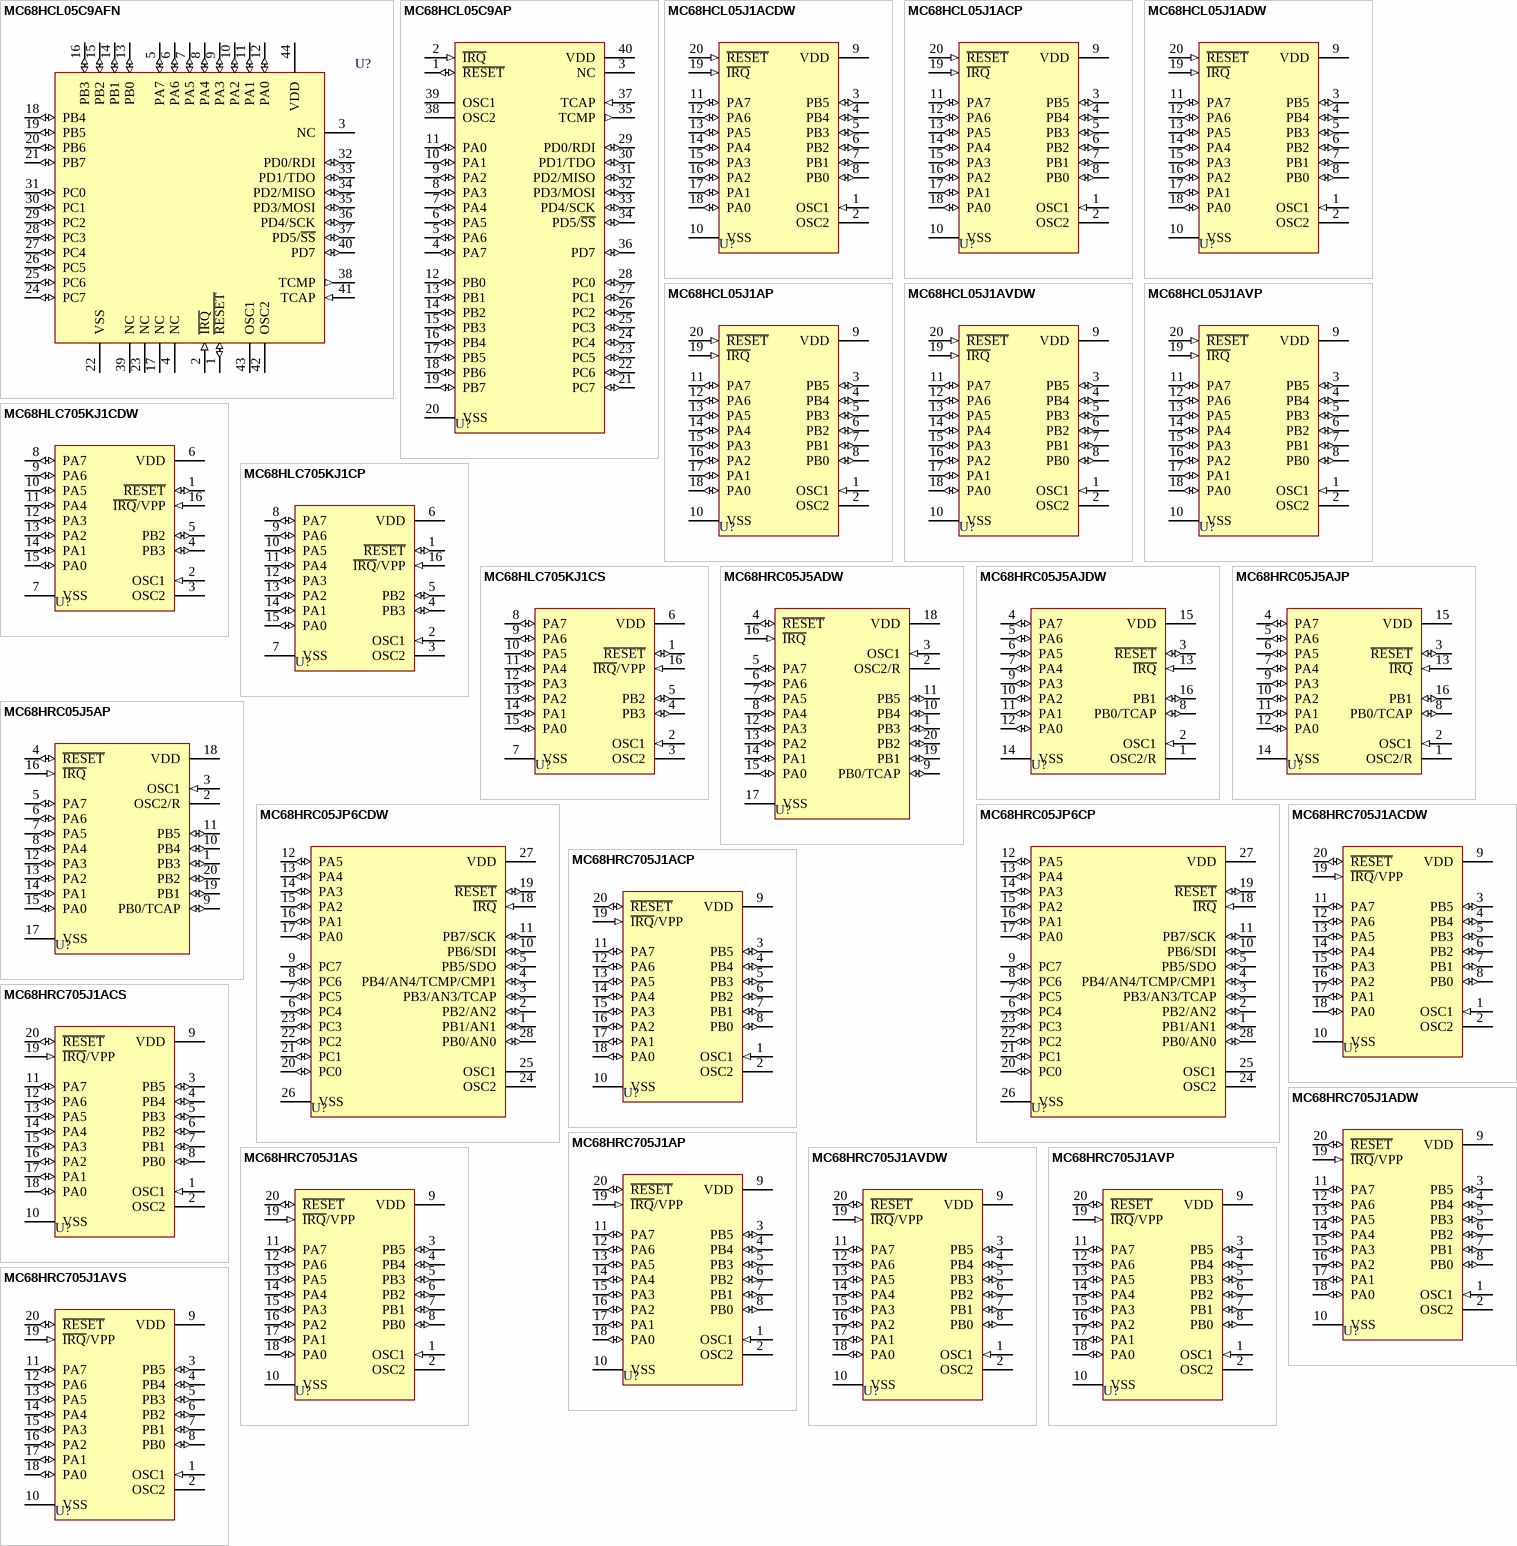
[diagram p99: symbols MC68HCL05C9AFN to MC68HRC705J1AVS]

## MC68HCL05C9AFN
designator U?
8-Bit Microcontroller; Note: If MC68HC705C9A devices are to be used in the same socket, pin 3 should be tied to VDD.; Note: For compatibility with MC68HC05C4A/C8A/C12A devices in 44-pin PLCC, tie pins 17 & 18 together, and tie pins 39 & 40 together.; Note: For compatibility with MC68HC705C8A 44-pin PLCC device, 3 sets of pins should be tied together - pins 17 & 18, 39 & 40, and pins 3, 4, & 44.; Published: 17-Jan-2003; LatestRevisionDate: 13-Apr-2006; LatestRevisionNote: IPC-7351 Footprint Added.; DatasheetVersion: Rev 5, 2000; PackageVersion: rev3, Feb-2002; PackageReference: 777-02; Publisher: Altium Limited; PackageDescription: 44-Pin Plastic Leaded Chip Carrier 1.27 mm Pitch; ComponentLink1Description: Manufacturer Link; ComponentLink1URL: http://www.freescale.com/; ComponentLink2Description: Datasheet; ComponentLink2URL: http://www.freescale.com/files/microcontrollers/doc/data_sheet/MC68HC05C9A.pdf
footprint 777-02_N (Leaded Chip Carrier, 44-Leads, Body 16.6x16.6mm, Pitch 1.27mm, IPC Medium Density)
footprint 777-02_L (Leaded Chip Carrier, 44-Leads, Body 16.6x16.6mm, Pitch 1.27mm, IPC High Density)
footprint 777-02_M (Leaded Chip Carrier, 44-Leads, Body 16.6x16.6mm, Pitch 1.27mm, IPC Low Density)
3D model MC68HCL05-777-02 (44-Pin Plastic Leaded Chip Carrier 1.27 mm Pitch)
pins: 1 ~{RESET} (io), 2 ~{IRQ} (in), 3 NC, 4 NC, 5 PA7 (io), 6 PA6 (io), 7 PA5 (io), 8 PA4 (io), 9 PA3 (io), 10 PA2 (io), 11 PA1 (io), 12 PA0 (io), 13 PB0 (io), 14 PB1 (io), 15 PB2 (io), 16 PB3 (io), 17 NC, 18 PB4 (io), 19 PB5 (io), 20 PB6 (io), 21 PB7 (io), 22 VSS (power), 23 NC, 24 PC7 (io), 25 PC6 (io), 26 PC5 (io), 27 PC4 (io), 28 PC3 (io), 29 PC2 (io), 30 PC1 (io), 31 PC0 (io), 32 PD0/RDI (io), 33 PD1/TDO (io), 34 PD2/MISO (io), 35 PD3/MOSI (io), 36 PD4/SCK (io), 37 PD5/~{SS} (io), 38 TCMP (out), 39 NC, 40 PD7 (io), 41 TCAP (in), 42 OSC2, 43 OSC1, 44 VDD (power)

## MC68HCL05C9AP
designator U?
8-Bit Microcontroller; Note: If MC68HC705C9A devices are to be used in the same socket, pin 3 should be tied to VDD.; Published: 17-Jan-2003; LatestRevisionDate: 06-Jun-2005; LatestRevisionNote: Stylized 3D Model Added.; DatasheetVersion: Rev 5, 2000; PackageReference: 711-03; Publisher: Altium Limited; PackageDescription: DIP; 40 Leads; Row Spacing 15.24 mm; Pitch 2.54 mm; ComponentLink1Description: Manufacturer Link; ComponentLink1URL: http://www.freescale.com/; ComponentLink2Description: Datasheet; ComponentLink2URL: http://www.freescale.com/files/microcontrollers/doc/data_sheet/MC68HC05C9A.pdf
footprint 711-03 (DIP; 40 Leads; Row Spacing 15.24 mm; Pitch 2.54 mm)
3D model 711-03 (DIP; 40 Leads; Row Spacing 15.24 mm; Pitch 2.54 mm)
pins: 1 ~{RESET} (io), 2 ~{IRQ} (in), 3 NC, 4 PA7 (io), 5 PA6 (io), 6 PA5 (io), 7 PA4 (io), 8 PA3 (io), 9 PA2 (io), 10 PA1 (io), 11 PA0 (io), 12 PB0 (io), 13 PB1 (io), 14 PB2 (io), 15 PB3 (io), 16 PB4 (io), 17 PB5 (io), 18 PB6 (io), 19 PB7 (io), 20 VSS (power), 21 PC7 (io), 22 PC6 (io), 23 PC5 (io), 24 PC4 (io), 25 PC3 (io), 26 PC2 (io), 27 PC1 (io), 28 PC0 (io), 29 PD0/RDI (io), 30 PD1/TDO (io), 31 PD2/MISO (io), 32 PD3/MOSI (io), 33 PD4/SCK (io), 34 PD5/~{SS} (io), 35 TCMP (out), 36 PD7 (io), 37 TCAP (in), 38 OSC2, 39 OSC1, 40 VDD (power)

## MC68HCL05J1ACDW
designator U?
8-Bit Microcontroller; Published: 17-Jan-2003; LatestRevisionDate: 13-Apr-2006; LatestRevisionNote: IPC-7351 Footprint Added.; DatasheetVersion: Rev 3, 4/2002; PackageReference: 751D-04; Publisher: Altium Limited; PackageDescription: 20-Pin Small Outline Integrated Circuit 1.27 mm Pitch; ComponentLink1Description: Manufacturer Link; ComponentLink1URL: http://www.freescale.com/; ComponentLink2Description: Datasheet; ComponentLink2URL: http://www.freescale.com/files/microcontrollers/doc/data_sheet/MC68HC05J1A.pdf
footprint 751D-04_N (SOIC, 20-Leads, Body 12.8x7.5mm, Pitch 1.27mm, IPC Medium Density)
footprint 751D-04_L (SOIC, 20-Leads, Body 12.8x7.5mm, Pitch 1.27mm, IPC High Density)
footprint 751D-04_M (SOIC, 20-Leads, Body 12.8x7.5mm, Pitch 1.27mm, IPC Low Density)
3D model 751D-05 (20-Pin Small Outline Integrated Circuit 1.27 mm Pitch)
pins: 1 OSC1 (in), 2 OSC2, 3 PB5 (io), 4 PB4 (io), 5 PB3 (io), 6 PB2 (io), 7 PB1 (io), 8 PB0 (io), 9 VDD (power), 10 VSS (power), 11 PA7 (io), 12 PA6 (io), 13 PA5 (io), 14 PA4 (io), 15 PA3 (io), 16 PA2 (io), 17 PA1 (io), 18 PA0 (io), 19 ~{IRQ} (in), 20 ~{RESET} (in)

## MC68HCL05J1ACP
designator U?
8-Bit Microcontroller; Published: 17-Jan-2003; LatestRevisionDate: 06-Jun-2005; LatestRevisionNote: Stylized 3D Model Added.; DatasheetVersion: Rev 3, 4/2002; PackageReference: 738-03; Publisher: Altium Limited; PackageDescription: DIP; 20 Leads; Row Spacing 7.62 mm; Pitch 2.54 mm; Code_JEDEC: MS-001-AD; ComponentLink1Description: Manufacturer Link; ComponentLink1URL: http://www.freescale.com/; ComponentLink2Description: Datasheet; ComponentLink2URL: http://www.freescale.com/files/microcontrollers/doc/data_sheet/MC68HC05J1A.pdf
footprint 738-03 (DIP; 20 Leads; Row Spacing 7.62 mm; Pitch 2.54 mm)
3D model 738-03 (DIP; 20 Leads; Row Spacing 7.62 mm; Pitch 2.54 mm)
pins: 1 OSC1 (in), 2 OSC2, 3 PB5 (io), 4 PB4 (io), 5 PB3 (io), 6 PB2 (io), 7 PB1 (io), 8 PB0 (io), 9 VDD (power), 10 VSS (power), 11 PA7 (io), 12 PA6 (io), 13 PA5 (io), 14 PA4 (io), 15 PA3 (io), 16 PA2 (io), 17 PA1 (io), 18 PA0 (io), 19 ~{IRQ} (in), 20 ~{RESET} (in)

## MC68HCL05J1ADW
designator U?
8-Bit Microcontroller; Published: 17-Jan-2003; LatestRevisionDate: 13-Apr-2006; LatestRevisionNote: IPC-7351 Footprint Added.; DatasheetVersion: Rev 3, 4/2002; PackageReference: 751D-04; Publisher: Altium Limited; PackageDescription: 20-Pin Small Outline Integrated Circuit 1.27 mm Pitch; ComponentLink1Description: Manufacturer Link; ComponentLink1URL: http://www.freescale.com/; ComponentLink2Description: Datasheet; ComponentLink2URL: http://www.freescale.com/files/microcontrollers/doc/data_sheet/MC68HC05J1A.pdf
footprint 751D-04_N (SOIC, 20-Leads, Body 12.8x7.5mm, Pitch 1.27mm, IPC Medium Density)
footprint 751D-04_L (SOIC, 20-Leads, Body 12.8x7.5mm, Pitch 1.27mm, IPC High Density)
footprint 751D-04_M (SOIC, 20-Leads, Body 12.8x7.5mm, Pitch 1.27mm, IPC Low Density)
3D model 751D-05 (20-Pin Small Outline Integrated Circuit 1.27 mm Pitch)
pins: 1 OSC1 (in), 2 OSC2, 3 PB5 (io), 4 PB4 (io), 5 PB3 (io), 6 PB2 (io), 7 PB1 (io), 8 PB0 (io), 9 VDD (power), 10 VSS (power), 11 PA7 (io), 12 PA6 (io), 13 PA5 (io), 14 PA4 (io), 15 PA3 (io), 16 PA2 (io), 17 PA1 (io), 18 PA0 (io), 19 ~{IRQ} (in), 20 ~{RESET} (in)

## MC68HCL05J1AP
designator U?
8-Bit Microcontroller; Published: 17-Jan-2003; LatestRevisionDate: 06-Jun-2005; LatestRevisionNote: Stylized 3D Model Added.; DatasheetVersion: Rev 3, 4/2002; PackageReference: 738-03; Publisher: Altium Limited; PackageDescription: DIP; 20 Leads; Row Spacing 7.62 mm; Pitch 2.54 mm; Code_JEDEC: MS-001-AD; ComponentLink1Description: Manufacturer Link; ComponentLink1URL: http://www.freescale.com/; ComponentLink2Description: Datasheet; ComponentLink2URL: http://www.freescale.com/files/microcontrollers/doc/data_sheet/MC68HC05J1A.pdf
footprint 738-03 (DIP; 20 Leads; Row Spacing 7.62 mm; Pitch 2.54 mm)
3D model 738-03 (DIP; 20 Leads; Row Spacing 7.62 mm; Pitch 2.54 mm)
pins: 1 OSC1 (in), 2 OSC2, 3 PB5 (io), 4 PB4 (io), 5 PB3 (io), 6 PB2 (io), 7 PB1 (io), 8 PB0 (io), 9 VDD (power), 10 VSS (power), 11 PA7 (io), 12 PA6 (io), 13 PA5 (io), 14 PA4 (io), 15 PA3 (io), 16 PA2 (io), 17 PA1 (io), 18 PA0 (io), 19 ~{IRQ} (in), 20 ~{RESET} (in)

## MC68HCL05J1AVDW
designator U?
8-Bit Microcontroller; Published: 17-Jan-2003; LatestRevisionDate: 13-Apr-2006; LatestRevisionNote: IPC-7351 Footprint Added.; DatasheetVersion: Rev 3, 4/2002; PackageReference: 751D-04; Publisher: Altium Limited; PackageDescription: 20-Pin Small Outline Integrated Circuit 1.27 mm Pitch; ComponentLink1Description: Manufacturer Link; ComponentLink1URL: http://www.freescale.com/; ComponentLink2Description: Datasheet; ComponentLink2URL: http://www.freescale.com/files/microcontrollers/doc/data_sheet/MC68HC05J1A.pdf
footprint 751D-04_N (SOIC, 20-Leads, Body 12.8x7.5mm, Pitch 1.27mm, IPC Medium Density)
footprint 751D-04_L (SOIC, 20-Leads, Body 12.8x7.5mm, Pitch 1.27mm, IPC High Density)
footprint 751D-04_M (SOIC, 20-Leads, Body 12.8x7.5mm, Pitch 1.27mm, IPC Low Density)
3D model 751D-05 (20-Pin Small Outline Integrated Circuit 1.27 mm Pitch)
pins: 1 OSC1 (in), 2 OSC2, 3 PB5 (io), 4 PB4 (io), 5 PB3 (io), 6 PB2 (io), 7 PB1 (io), 8 PB0 (io), 9 VDD (power), 10 VSS (power), 11 PA7 (io), 12 PA6 (io), 13 PA5 (io), 14 PA4 (io), 15 PA3 (io), 16 PA2 (io), 17 PA1 (io), 18 PA0 (io), 19 ~{IRQ} (in), 20 ~{RESET} (in)

## MC68HCL05J1AVP
designator U?
8-Bit Microcontroller; Published: 17-Jan-2003; LatestRevisionDate: 06-Jun-2005; LatestRevisionNote: Stylized 3D Model Added.; DatasheetVersion: Rev 3, 4/2002; PackageReference: 738-03; Publisher: Altium Limited; PackageDescription: DIP; 20 Leads; Row Spacing 7.62 mm; Pitch 2.54 mm; Code_JEDEC: MS-001-AD; ComponentLink1Description: Manufacturer Link; ComponentLink1URL: http://www.freescale.com/; ComponentLink2Description: Datasheet; ComponentLink2URL: http://www.freescale.com/files/microcontrollers/doc/data_sheet/MC68HC05J1A.pdf
footprint 738-03 (DIP; 20 Leads; Row Spacing 7.62 mm; Pitch 2.54 mm)
3D model 738-03 (DIP; 20 Leads; Row Spacing 7.62 mm; Pitch 2.54 mm)
pins: 1 OSC1 (in), 2 OSC2, 3 PB5 (io), 4 PB4 (io), 5 PB3 (io), 6 PB2 (io), 7 PB1 (io), 8 PB0 (io), 9 VDD (power), 10 VSS (power), 11 PA7 (io), 12 PA6 (io), 13 PA5 (io), 14 PA4 (io), 15 PA3 (io), 16 PA2 (io), 17 PA1 (io), 18 PA0 (io), 19 ~{IRQ} (in), 20 ~{RESET} (in)

## MC68HLC705KJ1CDW
designator U?
8-Bit Microcontroller; Published: 17-Jan-2003; LatestRevisionDate: 13-Apr-2006; LatestRevisionNote: IPC-7351 Footprint Added.; DatasheetVersion: Rev 3, 4/2002; PackageVersion: Sep-2002; PackageReference: 751G; Publisher: Altium Limited; PackageDescription: 16-Pin Small Outline Integrated Circuit 1.27 mm Pitch; ComponentLink1Description: Manufacturer Link; ComponentLink1URL: http://www.freescale.com/; ComponentLink2Description: Datasheet; ComponentLink2URL: http://www.freescale.com/files/microcontrollers/doc/data_sheet/MC68HC705KJ1.pdf
footprint 751G_N (SOIC, 16-Leads, Body 10.3x7.5mm, Pitch 1.27mm, IPC Medium Density)
footprint 751G_L (SOIC, 16-Leads, Body 10.3x7.5mm, Pitch 1.27mm, IPC High Density)
footprint 751G_M (SOIC, 16-Leads, Body 10.3x7.5mm, Pitch 1.27mm, IPC Low Density)
3D model 751G (16-Pin Small Outline Integrated Circuit 1.27 mm Pitch)
pins: 1 ~{RESET} (io), 2 OSC1 (in), 3 OSC2, 4 PB3 (io), 5 PB2 (io), 6 VDD (power), 7 VSS (power), 8 PA7 (io), 9 PA6 (io), 10 PA5 (io), 11 PA4 (io), 12 PA3 (io), 13 PA2 (io), 14 PA1 (io), 15 PA0 (io), 16 ~{IRQ}/VPP (in)

## MC68HLC705KJ1CP
designator U?
8-Bit Microcontroller; Published: 17-Jan-2003; LatestRevisionDate: 06-Jun-2005; LatestRevisionNote: Stylized 3D Model Added.; DatasheetVersion: Rev 3, 4/2002; PackageReference: 648-08; Publisher: Altium Limited; PackageDescription: DIP; 16 Leads; Row Spacing 7.62 mm; Pitch 2.54 mm; Code_JEDEC: MS-001-BB; ComponentLink1Description: Manufacturer Link; ComponentLink1URL: http://www.freescale.com/; ComponentLink2Description: Datasheet; ComponentLink2URL: http://www.freescale.com/files/microcontrollers/doc/data_sheet/MC68HC705KJ1.pdf
footprint 648-08 (DIP; 16 Leads; Row Spacing 7.62 mm; Pitch 2.54 mm)
3D model 648-08 (DIP; 16 Leads; Row Spacing 7.62 mm; Pitch 2.54 mm)
pins: 1 ~{RESET} (io), 2 OSC1 (in), 3 OSC2, 4 PB3 (io), 5 PB2 (io), 6 VDD (power), 7 VSS (power), 8 PA7 (io), 9 PA6 (io), 10 PA5 (io), 11 PA4 (io), 12 PA3 (io), 13 PA2 (io), 14 PA1 (io), 15 PA0 (io), 16 ~{IRQ}/VPP (in)

## MC68HLC705KJ1CS
designator U?
8-Bit Microcontroller; Published: 17-Jan-2003; LatestRevisionDate: 06-Jun-2005; LatestRevisionNote: Stylized 3D Model Added.; DatasheetVersion: Rev 3, 4/2002; PackageReference: 620-10; Publisher: Altium Limited; PackageDescription: DIP; 16 Leads; Row Spacing 7.62 mm; Pitch 2.54 mm; ComponentLink1Description: Manufacturer Link; ComponentLink1URL: http://www.freescale.com/; ComponentLink2Description: Datasheet; ComponentLink2URL: http://www.freescale.com/files/microcontrollers/doc/data_sheet/MC68HC705KJ1.pdf
footprint 620-10 (DIP; 16 Leads; Row Spacing 7.62 mm; Pitch 2.54 mm)
3D model 620-10 (DIP; 16 Leads; Row Spacing 7.62 mm; Pitch 2.54 mm)
pins: 1 ~{RESET} (io), 2 OSC1 (in), 3 OSC2, 4 PB3 (io), 5 PB2 (io), 6 VDD (power), 7 VSS (power), 8 PA7 (io), 9 PA6 (io), 10 PA5 (io), 11 PA4 (io), 12 PA3 (io), 13 PA2 (io), 14 PA1 (io), 15 PA0 (io), 16 ~{IRQ}/VPP (in)

## MC68HRC05J5ADW
designator U?
8-Bit Microcontroller; Published: 17-Jan-2003; LatestRevisionDate: 13-Apr-2006; LatestRevisionNote: IPC-7351 Footprint Added.; DatasheetVersion: Rev 2.1, July 16-1999; PackageReference: 751D-04; Publisher: Altium Limited; PackageDescription: 20-Pin Small Outline Integrated Circuit 1.27 mm Pitch; ComponentLink1Description: Manufacturer Link; ComponentLink1URL: http://www.freescale.com/; ComponentLink2Description: Datasheet; ComponentLink2URL: http://www.freescale.com/files/microcontrollers/doc/data_sheet/HC05J5AGRS.pdf
footprint 751D-04_N (SOIC, 20-Leads, Body 12.8x7.5mm, Pitch 1.27mm, IPC Medium Density)
footprint 751D-04_L (SOIC, 20-Leads, Body 12.8x7.5mm, Pitch 1.27mm, IPC High Density)
footprint 751D-04_M (SOIC, 20-Leads, Body 12.8x7.5mm, Pitch 1.27mm, IPC Low Density)
3D model 751D-05 (20-Pin Small Outline Integrated Circuit 1.27 mm Pitch)
pins: 1 PB3 (io), 2 OSC2/R, 3 OSC1 (in), 4 ~{RESET} (io), 5 PA7 (io), 6 PA6 (io), 7 PA5 (io), 8 PA4 (io), 9 PB0/TCAP (io), 10 PB4 (io), 11 PB5 (io), 12 PA3 (io), 13 PA2 (io), 14 PA1 (io), 15 PA0 (io), 16 ~{IRQ} (in), 17 VSS (power), 18 VDD (power), 19 PB1 (io), 20 PB2 (io)

## MC68HRC05J5AJDW
designator U?
8-Bit Microcontroller; Published: 17-Jan-2003; LatestRevisionDate: 13-Apr-2006; LatestRevisionNote: IPC-7351 Footprint Added.; DatasheetVersion: Rev 2.1, July 16-1999; PackageVersion: Sep-2002; PackageReference: 751G; Publisher: Altium Limited; PackageDescription: 16-Pin Small Outline Integrated Circuit 1.27 mm Pitch; ComponentLink1Description: Manufacturer Link; ComponentLink1URL: http://www.freescale.com/; ComponentLink2Description: Datasheet; ComponentLink2URL: http://www.freescale.com/files/microcontrollers/doc/data_sheet/HC05J5AGRS.pdf
footprint 751G_N (SOIC, 16-Leads, Body 10.3x7.5mm, Pitch 1.27mm, IPC Medium Density)
footprint 751G_L (SOIC, 16-Leads, Body 10.3x7.5mm, Pitch 1.27mm, IPC High Density)
footprint 751G_M (SOIC, 16-Leads, Body 10.3x7.5mm, Pitch 1.27mm, IPC Low Density)
3D model 751G (16-Pin Small Outline Integrated Circuit 1.27 mm Pitch)
pins: 1 OSC2/R, 2 OSC1 (in), 3 ~{RESET} (io), 4 PA7 (io), 5 PA6 (io), 6 PA5 (io), 7 PA4 (io), 8 PB0/TCAP (io), 9 PA3 (io), 10 PA2 (io), 11 PA1 (io), 12 PA0 (io), 13 ~{IRQ} (in), 14 VSS (power), 15 VDD (power), 16 PB1 (io)

## MC68HRC05J5AJP
designator U?
8-Bit Microcontroller; Published: 17-Jan-2003; LatestRevisionDate: 06-Jun-2005; LatestRevisionNote: Stylized 3D Model Added.; DatasheetVersion: Rev 2.1, July 16-1999; PackageReference: 648-08; Publisher: Altium Limited; PackageDescription: DIP; 16 Leads; Row Spacing 7.62 mm; Pitch 2.54 mm; Code_JEDEC: MS-001-BB; ComponentLink1Description: Manufacturer Link; ComponentLink1URL: http://www.freescale.com/; ComponentLink2Description: Datasheet; ComponentLink2URL: http://www.freescale.com/files/microcontrollers/doc/data_sheet/HC05J5AGRS.pdf
footprint 648-08 (DIP; 16 Leads; Row Spacing 7.62 mm; Pitch 2.54 mm)
3D model 648-08 (DIP; 16 Leads; Row Spacing 7.62 mm; Pitch 2.54 mm)
pins: 1 OSC2/R, 2 OSC1 (in), 3 ~{RESET} (io), 4 PA7 (io), 5 PA6 (io), 6 PA5 (io), 7 PA4 (io), 8 PB0/TCAP (io), 9 PA3 (io), 10 PA2 (io), 11 PA1 (io), 12 PA0 (io), 13 ~{IRQ} (in), 14 VSS (power), 15 VDD (power), 16 PB1 (io)

## MC68HRC05J5AP
designator U?
8-Bit Microcontroller; Published: 17-Jan-2003; LatestRevisionDate: 06-Jun-2005; LatestRevisionNote: Stylized 3D Model Added.; DatasheetVersion: Rev 2.1, July 16-1999; PackageReference: 738-03; Publisher: Altium Limited; PackageDescription: DIP; 20 Leads; Row Spacing 7.62 mm; Pitch 2.54 mm; Code_JEDEC: MS-001-AD; ComponentLink1Description: Manufacturer Link; ComponentLink1URL: http://www.freescale.com/; ComponentLink2Description: Datasheet; ComponentLink2URL: http://www.freescale.com/files/microcontrollers/doc/data_sheet/HC05J5AGRS.pdf
footprint 738-03 (DIP; 20 Leads; Row Spacing 7.62 mm; Pitch 2.54 mm)
3D model 738-03 (DIP; 20 Leads; Row Spacing 7.62 mm; Pitch 2.54 mm)
pins: 1 PB3 (io), 2 OSC2/R, 3 OSC1 (in), 4 ~{RESET} (io), 5 PA7 (io), 6 PA6 (io), 7 PA5 (io), 8 PA4 (io), 9 PB0/TCAP (io), 10 PB4 (io), 11 PB5 (io), 12 PA3 (io), 13 PA2 (io), 14 PA1 (io), 15 PA0 (io), 16 ~{IRQ} (in), 17 VSS (power), 18 VDD (power), 19 PB1 (io), 20 PB2 (io)

## MC68HRC05JP6CDW
designator U?
8-Bit Microcontroller; Published: 17-Jan-2003; LatestRevisionDate: 13-Apr-2006; LatestRevisionNote: IPC-7351 Footprint Added.; DatasheetVersion: Rev 3, 2-Mar-1998; PackageReference: 751F-03; Publisher: Altium Limited; PackageDescription: 28-Pin Small Outline Integrated Circuit 1.27 mm Pitch; ComponentLink1Description: Manufacturer Link; ComponentLink1URL: http://www.freescale.com/
footprint 751F-03_N (SOIC, 28-Leads, Body 17.9x7.5mm, Pitch 1.27mm, IPC Medium Density)
footprint 751F-03_L (SOIC, 28-Leads, Body 17.9x7.5mm, Pitch 1.27mm, IPC High Density)
footprint 751F-03_M (SOIC, 28-Leads, Body 17.9x7.5mm, Pitch 1.27mm, IPC Low Density)
3D model 751F-03 (28-Pin Small Outline Integrated Circuit 1.27 mm Pitch)
pins: 1 PB1/AN1 (io), 2 PB2/AN2 (io), 3 PB3/AN3/TCAP (io), 4 PB4/AN4/TCMP/CMP1 (io), 5 PB5/SDO (io), 6 PC4 (io), 7 PC5 (io), 8 PC6 (io), 9 PC7 (io), 10 PB6/SDI (io), 11 PB7/SCK (io), 12 PA5 (io), 13 PA4 (io), 14 PA3 (io), 15 PA2 (io), 16 PA1 (io), 17 PA0 (io), 18 ~{IRQ} (in), 19 ~{RESET} (io), 20 PC0 (io), 21 PC1 (io), 22 PC2 (io), 23 PC3 (io), 24 OSC2, 25 OSC1, 26 VSS (power), 27 VDD (power), 28 PB0/AN0 (io)

## MC68HRC05JP6CP
designator U?
8-Bit Microcontroller; Published: 17-Jan-2003; LatestRevisionDate: 06-Jun-2005; LatestRevisionNote: Stylized 3D Model Added.; DatasheetVersion: Rev 3, 2-Mar-1998; PackageReference: 710-02; Publisher: Altium Limited; PackageDescription: DIP; 28 Leads; Row Spacing 15.24 mm; Pitch 2.54 mm; ComponentLink1Description: Manufacturer Link; ComponentLink1URL: http://www.freescale.com/
footprint 710-02 (DIP; 28 Leads; Row Spacing 15.24 mm; Pitch 2.54 mm)
3D model 710-02 (DIP; 28 Leads; Row Spacing 15.24 mm; Pitch 2.54 mm)
pins: 1 PB1/AN1 (io), 2 PB2/AN2 (io), 3 PB3/AN3/TCAP (io), 4 PB4/AN4/TCMP/CMP1 (io), 5 PB5/SDO (io), 6 PC4 (io), 7 PC5 (io), 8 PC6 (io), 9 PC7 (io), 10 PB6/SDI (io), 11 PB7/SCK (io), 12 PA5 (io), 13 PA4 (io), 14 PA3 (io), 15 PA2 (io), 16 PA1 (io), 17 PA0 (io), 18 ~{IRQ} (in), 19 ~{RESET} (io), 20 PC0 (io), 21 PC1 (io), 22 PC2 (io), 23 PC3 (io), 24 OSC2, 25 OSC1, 26 VSS (power), 27 VDD (power), 28 PB0/AN0 (io)

## MC68HRC705J1ACDW
designator U?
8-Bit Microcontroller; Published: 17-Jan-2003; LatestRevisionDate: 13-Apr-2006; LatestRevisionNote: IPC-7351 Footprint Added.; DatasheetVersion: Rev 4, 5/2002; PackageReference: 751D-04; Publisher: Altium Limited; PackageDescription: 20-Pin Small Outline Integrated Circuit 1.27 mm Pitch; ComponentLink1Description: Manufacturer Link; ComponentLink1URL: http://www.freescale.com/; ComponentLink2Description: Datasheet; ComponentLink2URL: http://www.freescale.com/files/microcontrollers/doc/data_sheet/MC68HC705J1A.pdf
footprint 751D-04_N (SOIC, 20-Leads, Body 12.8x7.5mm, Pitch 1.27mm, IPC Medium Density)
footprint 751D-04_L (SOIC, 20-Leads, Body 12.8x7.5mm, Pitch 1.27mm, IPC High Density)
footprint 751D-04_M (SOIC, 20-Leads, Body 12.8x7.5mm, Pitch 1.27mm, IPC Low Density)
3D model 751D-05 (20-Pin Small Outline Integrated Circuit 1.27 mm Pitch)
pins: 1 OSC1 (in), 2 OSC2, 3 PB5 (io), 4 PB4 (io), 5 PB3 (io), 6 PB2 (io), 7 PB1 (io), 8 PB0 (io), 9 VDD (power), 10 VSS (power), 11 PA7 (io), 12 PA6 (io), 13 PA5 (io), 14 PA4 (io), 15 PA3 (io), 16 PA2 (io), 17 PA1 (io), 18 PA0 (io), 19 ~{IRQ}/VPP (in), 20 ~{RESET} (io)

## MC68HRC705J1ACP
designator U?
8-Bit Microcontroller; Published: 17-Jan-2003; LatestRevisionDate: 06-Jun-2005; LatestRevisionNote: Stylized 3D Model Added.; DatasheetVersion: Rev 4, 5/2002; PackageReference: 738-03; Publisher: Altium Limited; PackageDescription: DIP; 20 Leads; Row Spacing 7.62 mm; Pitch 2.54 mm; Code_JEDEC: MS-001-AD; ComponentLink1Description: Manufacturer Link; ComponentLink1URL: http://www.freescale.com/; ComponentLink2Description: Datasheet; ComponentLink2URL: http://www.freescale.com/files/microcontrollers/doc/data_sheet/MC68HC705J1A.pdf
footprint 738-03 (DIP; 20 Leads; Row Spacing 7.62 mm; Pitch 2.54 mm)
3D model 738-03 (DIP; 20 Leads; Row Spacing 7.62 mm; Pitch 2.54 mm)
pins: 1 OSC1 (in), 2 OSC2, 3 PB5 (io), 4 PB4 (io), 5 PB3 (io), 6 PB2 (io), 7 PB1 (io), 8 PB0 (io), 9 VDD (power), 10 VSS (power), 11 PA7 (io), 12 PA6 (io), 13 PA5 (io), 14 PA4 (io), 15 PA3 (io), 16 PA2 (io), 17 PA1 (io), 18 PA0 (io), 19 ~{IRQ}/VPP (in), 20 ~{RESET} (io)

## MC68HRC705J1ACS
designator U?
8-Bit Microcontroller; Published: 17-Jan-2003; LatestRevisionDate: 06-Jun-2005; LatestRevisionNote: Stylized 3D Model Added.; DatasheetVersion: Rev 4, 5/2002; PackageReference: 732-03; Publisher: Altium Limited; PackageDescription: DIP; 20 Leads; Row Spacing 7.62 mm; Pitch 2.54 mm; Code_JEDEC: MS-015-AE; ComponentLink1Description: Manufacturer Link; ComponentLink1URL: http://www.freescale.com/; ComponentLink2Description: Datasheet; ComponentLink2URL: http://www.freescale.com/files/microcontrollers/doc/data_sheet/MC68HC705J1A.pdf
footprint 732-03 (DIP; 20 Leads; Row Spacing 7.62 mm; Pitch 2.54 mm)
3D model 732-03 (DIP; 20 Leads; Row Spacing 7.62 mm; Pitch 2.54 mm)
pins: 1 OSC1 (in), 2 OSC2, 3 PB5 (io), 4 PB4 (io), 5 PB3 (io), 6 PB2 (io), 7 PB1 (io), 8 PB0 (io), 9 VDD (power), 10 VSS (power), 11 PA7 (io), 12 PA6 (io), 13 PA5 (io), 14 PA4 (io), 15 PA3 (io), 16 PA2 (io), 17 PA1 (io), 18 PA0 (io), 19 ~{IRQ}/VPP (in), 20 ~{RESET} (io)